# EAGLE library part WE-RJ45_7498210002 (library 74980104400_Eagle_WE-RJ45_rev19b)
WE-RJ45 LAN Transformer Characteristics RJ45 Connector with integrated transformer / common mode choke Power over Ethernet up to 50 Watt and speeds up to 10 Gbit/s Available in SMD, THT and THT with USB Compliant with standards: IEEE 802.3u, IEEE 802.3ab, IEEE 802.3af, IEEE 802.3at, IEEE 802.3an and upcoming IEE 802.3bt Applications Suitable for industrial temperatures from –40 °C up to +85 °C Compatible to Industrial Ethernet systems like EtherCAT or Profinet Compliant with most IC’s for Ethernet applications such as Microchip, Texas Instruments, Broadcom, Linear Technology Hubs, Routers, Switches, IP cameras, IoT applications <https://katalog.we-online.com/media/images/v2/o35731v209%20Family_WE-RJ45-LAN.jpg> Details see: https://katalog.we-online.com/en/pbs/WE-LAN-RJ45 Updated by Ella Wu 2019-08-05 2019 (C) Wurth Elektronik
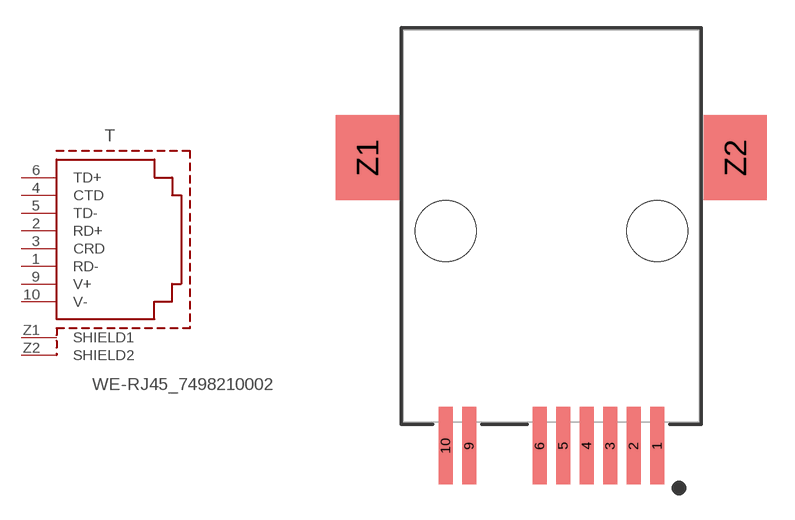
[diagram p20: symbol with the pads of 7498210002; footprint 7498210002]

Designator prefix T

## WE-RJ45_7498210002 (DATA-RATE: 10/100 Base-T; DATASHEET-URL: https://katalog.we-online.com/pbs/datasheet/7498210002.pdf; LED: -; MOUNT: SMT; PART-NUMBER: 7498210002; POE: PoE (up to 600 mA); PORTS: 1; USB: No)  [7498210002]
1  RD-
2  RD+
3  CRD
4  CTD
5  TD-
6  TD+
9  V+
10  V-
Z1  SHIELD1  pwr
Z2  SHIELD2  pwr

## Footprint 7498210002 (pad centres in mm)
WE-RJ45 LAN Transformer 10/100 Base-T
smd 0.76 x 4.18: 1 5.715,-11.61; 2 4.445,-11.61; 3 3.175,-11.61; 4 1.905,-11.61; 5 0.635,-11.61; 6 -0.635,-11.61; 9 -4.445,-11.61; 10 -5.715,-11.61
smd 3.42 x 4.58: Z1 -9.94,3.97; Z2 9.94,3.97
hole 3.3 at 5.715,0
hole 3.3 at -5.715,0